# Altium schematic symbol library 0603YC104JAT2A.SCHLIB: 1 symbol
Pins are listed as number, name and electrical type; pins without a type are passive.

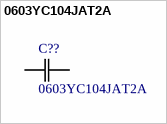
[diagram p0: symbol 0603YC104JAT2A]

## 0603YC104JAT2A
designator C??
Imported; Vendor: AVX Corporation; Built_By: EMA_UL_Team; Type: DEV; C: Copyright (C) 2015 Accelerated Designs. All rights reserved; Manufacturer_Part_Number: 0603YC104JAT2A; RefDes: RefDes; Value: Value
footprint CAPC1608X90X35NL15T15
pins: 1, 2